# Altium footprint library EISI.PcbLib: 695 footprints (part 24 of 44)
Each footprint in its own frame and in the unit in brackets; x right, y up, seen from the top. Pads: shape width x height; smd on the part's side, far side on the other; paste and mask are expansions set on the pad; w line width, h text height; cw(c..) or ccw(c..) is an arc to the next point about the centre after c.
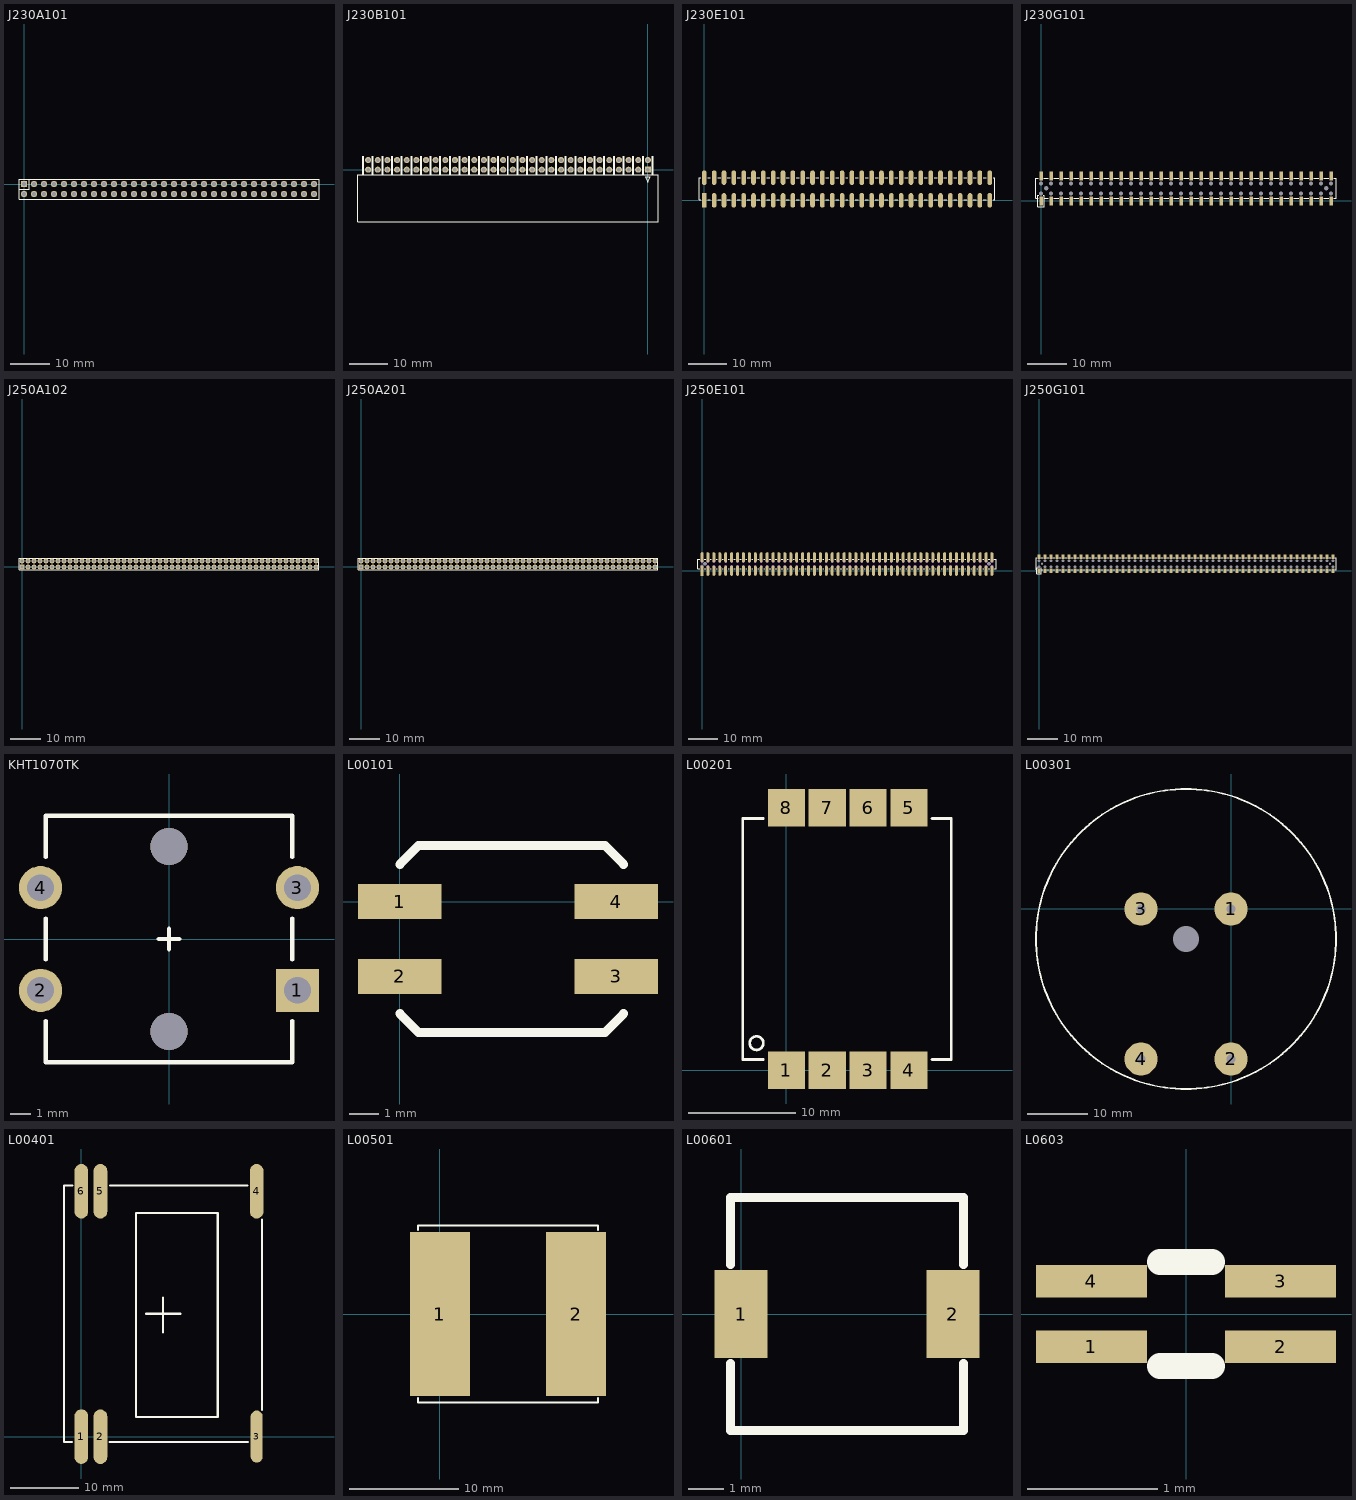
[diagram p23: the footprints below, top view; thin cyan lines are the x and y axes]

## J230A101 [mm]
height 4.6
pads (60):
  rect 1.6x1.6 hole 0.9: 1(0,0)
  round 1.6 hole 0.9: 2(0,-2.54) 3(2.54,0) 4(2.54,-2.54) 5(5.08,0) 6(5.08,-2.54) 7(7.62,0) 8(7.62,-2.54) 9(10.16,0) 10(10.16,-2.54) 11(12.7,0) 12(12.7,-2.54) 13(15.24,0) 14(15.24,-2.54) 15(17.78,0) 16(17.78,-2.54) 17(20.32,0) 18(20.32,-2.54) 19(22.86,0) 20(22.86,-2.54) 21(25.4,0) 22(25.4,-2.54) 23(27.94,0) 24(27.94,-2.54) 25(30.48,0) 26(30.48,-2.54) 27(33.02,0) 28(33.02,-2.54) 29(35.56,0) 30(35.56,-2.54) 31(38.1,0) 32(38.1,-2.54) 33(40.64,0) 34(40.64,-2.54) 35(43.18,0) 36(43.18,-2.54) 37(45.72,0) 38(45.72,-2.54) 39(48.26,0) 40(48.26,-2.54) 41(50.8,0) 42(50.8,-2.54) 43(53.34,0) 44(53.34,-2.54) 45(55.88,0) 46(55.88,-2.54) 47(58.42,0) 48(58.42,-2.54) 49(60.96,0) 50(60.96,-2.54) 51(63.5,0) 52(63.5,-2.54) 53(66.04,0) 54(66.04,-2.54) 55(68.58,0) 56(68.58,-2.54) 57(71.12,0) 58(71.12,-2.54) 59(73.66,0) 60(73.66,-2.54)
TopOverlay:
  lines w0.254: -1.27,-1.27 1.27,-1.27 1.27,1.27 ; -1.27,-3.81 74.93,-3.81 74.93,1.27 -1.27,1.27 -1.27,-3.81

## J230B101 [mm]
pads (60):
  rect 1.6x1.6 hole 0.9: 1(0,0)
  round 1.6 hole 0.9: 2(-2.54,0) 3(-5.08,0) 4(-7.62,0) 5(-10.16,0) 6(-12.7,0) 7(-15.24,0) 8(-17.78,0) 9(-20.32,0) 10(-22.86,0) 11(-25.4,0) 12(-27.94,0) 13(-30.48,0) 14(-33.02,0) 15(-35.56,0) 16(-38.1,0) 17(-40.64,0) 18(-43.18,0) 19(-45.72,0) 20(-48.26,0) 21(-50.8,0) 22(-53.34,0) 23(-55.88,0) 24(-58.42,0) 25(-60.96,0) 26(-63.5,0) 27(-66.04,0) 28(-68.58,0) 29(-71.12,0) 30(-73.66,0) 31(0,2.54) 32(-2.54,2.54) 33(-5.08,2.54) 34(-7.62,2.54) 35(-10.16,2.54) 36(-12.7,2.54) 37(-15.24,2.54) 38(-17.78,2.54) 39(-20.32,2.54) 40(-22.86,2.54) 41(-25.4,2.54) 42(-27.94,2.54) 43(-30.48,2.54) 44(-33.02,2.54) 45(-35.56,2.54) 46(-38.1,2.54) 47(-40.64,2.54) 48(-43.18,2.54) 49(-45.72,2.54) 50(-48.26,2.54) 51(-50.8,2.54) 52(-53.34,2.54) 53(-55.88,2.54) 54(-58.42,2.54) 55(-60.96,2.54) 56(-63.5,2.54) 57(-66.04,2.54) 58(-68.58,2.54) 59(-71.12,2.54) 60(-73.66,2.54)
TopOverlay:
  lines w0.305: -75.057,-1.27 -75.057,3.556 -74.803,3.556 -74.803,-1.27 ; -72.517,-1.27 -72.517,3.556 -72.263,3.556 -72.263,-1.27 ; -69.977,-1.27 -69.977,3.556 -69.723,3.556 -69.723,-1.27 ; -67.437,-1.27 -67.437,3.556 -67.183,3.556 -67.183,-1.27 ; -64.897,-1.27 -64.897,3.556 -64.643,3.556 -64.643,-1.27 ; -62.357,-1.27 -62.357,3.556 -62.103,3.556 -62.103,-1.27 ; -59.817,-1.27 -59.817,3.556 -59.563,3.556 -59.563,-1.27 ; -57.277,-1.27 -57.277,3.556 -57.023,3.556 -57.023,-1.27 ; -54.737,-1.27 -54.737,3.556 -54.483,3.556 -54.483,-1.27 ; -52.197,-1.27 -52.197,3.556 -51.943,3.556 -51.943,-1.27 ; -49.657,-1.27 -49.657,3.556 -49.403,3.556 -49.403,-1.27 ; -47.117,-1.27 -47.117,3.556 -46.863,3.556 -46.863,-1.27 ; -44.577,-1.27 -44.577,3.556 -44.323,3.556 -44.323,-1.27 ; -42.037,-1.27 -42.037,3.556 -41.783,3.556 -41.783,-1.27 ; -39.497,-1.27 -39.497,3.556 -39.243,3.556 -39.243,-1.27 ; -36.957,-1.27 -36.957,3.556 -36.703,3.556 -36.703,-1.27 ; -34.417,-1.27 -34.417,3.556 -34.163,3.556 -34.163,-1.27 ; -31.877,-1.27 -31.877,3.556 -31.623,3.556 -31.623,-1.27 ; -29.337,-1.27 -29.337,3.556 -29.083,3.556 -29.083,-1.27 ; -26.797,-1.27 -26.797,3.556 -26.543,3.556 -26.543,-1.27 ; -24.257,-1.27 -24.257,3.556 -24.003,3.556 -24.003,-1.27 ; -21.717,-1.27 -21.717,3.556 -21.463,3.556 -21.463,-1.27 ; -19.177,-1.27 -19.177,3.556 -18.923,3.556 -18.923,-1.27 ; -16.637,-1.27 -16.637,3.556 -16.383,3.556 -16.383,-1.27 ; -14.097,-1.27 -14.097,3.556 -13.843,3.556 -13.843,-1.27 ; -11.557,-1.27 -11.557,3.556 -11.303,3.556 -11.303,-1.27 ; -9.017,-1.27 -9.017,3.556 -8.763,3.556 -8.763,-1.27 ; -6.477,-1.27 -6.477,3.556 -6.223,3.556 -6.223,-1.27 ; -3.937,-1.27 -3.937,3.556 -3.683,3.556 -3.683,-1.27 ; -1.397,-1.27 -1.397,3.556 -1.143,3.556 -1.143,-1.27 ; 1.143,-1.27 1.143,3.556 1.397,3.556 1.397,-1.27 ; -76.327,-13.716 2.667,-13.716 2.667,-1.27 -76.327,-1.27 -76.327,-13.716 ; -0.635,-1.905 0,-3.302 0.635,-1.905 -0.635,-1.905

## J230E101 [mil]
pads (60):
  rect 47x148 smd: 1(0,0)
  oval 47x148 smd: 2(0,230) 3(100,0) 4(100,230) 5(200,0) 6(200,230) 7(300,0) 8(300,230) 9(400,0) 10(400,230) 11(500,0) 12(500,230) 13(600,0) 14(600,230) 15(700,0) 16(700,230) 17(800,0) 18(800,230) 19(900,0) 20(900,230) 21(1000,0) 22(1000,230) 23(1100,0) 24(1100,230) 25(1200,0) 26(1200,230) 27(1300,0) 28(1300,230) 29(1400,0) 30(1400,230) 31(1500,0) 32(1500,230) 33(1600,0) 34(1600,230) 35(1700,0) 36(1700,230) 37(1800,0) 38(1800,230) 39(1900,0) 40(1900,230) 41(2000,0) 42(2000,230) 43(2100,0) 44(2100,230) 45(2200,0) 46(2200,230) 47(2300,0) 48(2300,230) 49(2400,0) 50(2400,230) 51(2500,0) 52(2500,230) 53(2600,0) 54(2600,230) 55(2700,0) 56(2700,230) 57(2800,0) 58(2800,230) 59(2900,0) 60(2900,230)
TopOverlay:
  lines w7.87: -35,5 -50,5 -50,230 -35,230 ; 35,5 60,5 ; 35,230 60,230 ; 135,5 165,5 ; 135,230 165,230 ; 235,5 265,5 ; 235,230 265,230 ; 335,5 365,5 ; 335,230 365,230 ; 435,5 465,5 ; 435,230 465,230 ; 535,5 565,5 ; 535,230 565,230 ; 635,5 665,5 ; 635,230 665,230 ; 735,5 760,5 ; 735,230 760,230 ; 835,5 865,5 ; 835,230 865,230 ; 935,5 965,5 ; 935,230 965,230 ; 1035,5 1065,5 ; 1035,230 1065,230 ; 1135,5 1165,5 ; 1135,230 1165,230 ; 1235,5 1265,5 ; 1235,230 1265,230 ; 1335,5 1365,5 ; 1335,230 1365,230 ; 1435,5 1460,5 ; 1435,230 1460,230 ; 1535,5 1565,5 ; 1535,230 1565,230 ; 1635,5 1665,5 ; 1635,230 1665,230 ; 1735,5 1765,5 ; 1735,230 1765,230 ; 1835,5 1865,5 ; 1835,230 1865,230 ; 1935,5 1965,5 ; 1935,230 1965,230 ; 2035,5 2065,5 ; 2035,230 2065,230 ; 2135,5 2160,5 ; 2135,230 2160,230 ; 2235,5 2265,5 ; 2235,230 2265,230 ; 2335,5 2365,5 ; 2335,230 2365,230 ; 2435,5 2465,5 ; 2435,230 2465,230 ; 2535,5 2565,5 ; 2535,230 2565,230 ; 2635,5 2665,5 ; 2635,230 2665,230 ; 2735,5 2765,5 ; 2735,230 2765,230 ; 2835,5 2865,5 ; 2835,230 2865,230 ; 2935,5 2950,5 2950,230 2935,230

## J230G101 [mil]
pads (122):
  rect 35x91 smd: 1(0,0) 2(0,250) 3(100,0) 4(100,250) 5(200,0) 6(200,250) 7(300,0) 8(300,250) 9(400,0) 10(400,250) 11(500,0) 12(500,250) 13(600,0) 14(600,250) 15(700,0) 16(700,250) 17(800,0) 18(800,250) 19(900,0) 20(900,250) 21(1000,0) 22(1000,250) 23(1100,0) 24(1100,250) 25(1200,0) 26(1200,250) 27(1300,0) 28(1300,250) 29(1400,0) 30(1400,250) 31(1500,0) 32(1500,250) 33(1600,0) 34(1600,250) 35(1700,0) 36(1700,250) 37(1800,0) 38(1800,250) 39(1900,0) 40(1900,250) 41(2000,0) 42(2000,250) 43(2100,0) 44(2100,250) 45(2200,0) 46(2200,250) 47(2300,0) 48(2300,250) 49(2400,0) 50(2400,250) 51(2500,0) 52(2500,250) 53(2600,0) 54(2600,250) 55(2700,0) 56(2700,250) 57(2800,0) 58(2800,250) 59(2900,0) 60(2900,250)
  round 12 hole 38: ""(0,75) ""(0,175) ""(100,75) ""(100,175) ""(200,75) ""(200,175) ""(300,75) ""(300,175) ""(400,75) ""(400,175) ""(500,75) ""(500,175) ""(600,75) ""(600,175) ""(700,75) ""(700,175) ""(800,75) ""(800,175) ""(900,75) ""(900,175) ""(1000,75) ""(1000,175) ""(1100,75) ""(1100,175) ""(1200,75) ""(1200,175) ""(1300,75) ""(1300,175) ""(1400,75) ""(1400,175) ""(1500,75) ""(1500,175) ""(1600,75) ""(1600,175) ""(1700,75) ""(1700,175) ""(1800,75) ""(1800,175) ""(1900,75) ""(1900,175) ""(2000,75) ""(2000,175) ""(2100,75) ""(2100,175) ""(2200,75) ""(2200,175) ""(2300,75) ""(2300,175) ""(2400,75) ""(2400,175) ""(2500,75) ""(2500,175) ""(2600,75) ""(2600,175) ""(2700,75) ""(2700,175) ""(2800,75) ""(2800,175) ""(2900,75) ""(2900,175)
  round 12 hole 47: ""(50,125) ""(2850,125)
TopOverlay:
  lines w7.87: -27.56,25 -51.18,25 -51.18,225.79 -27.56,225.79 ; -23.62,56.5 -31.5,56.5 -31.5,25 -31.5,-57.68 27.56,-57.68 31.5,-57.68 31.5,52.56 31.5,56.5 23.62,56.5 ; 27.56,25 70.87,25 ; 27.56,225.79 70.87,225.79 ; 126.77,25 174.01,25 ; 126.77,225.79 174.01,225.79 ; 226.77,25 274.01,25 ; 226.77,225.79 274.01,225.79 ; 326.77,25 374.01,25 ; 326.77,225.79 374.01,225.79 ; 426.77,25 474.01,25 ; 426.77,225.79 474.01,225.79 ; 526.77,25 574.01,25 ; 526.77,225.79 574.01,225.79 ; 626.77,25 674.01,25 ; 626.77,225.79 674.01,225.79 ; 726.77,25 774.01,25 ; 726.77,225.79 774.01,225.79 ; 826.77,25 874.01,25 ; 826.77,225.79 874.01,225.79 ; 926.77,25 974.01,25 ; 926.77,225.79 974.01,225.79 ; 1026.77,25 1074.02,25 ; 1026.77,225.79 1074.02,225.79 ; 1126.77,25 1174.02,25 ; 1126.77,225.79 1174.02,225.79 ; 1226.77,25 1274.02,25 ; 1226.77,225.79 1274.02,225.79 ; 1326.77,25 1374.02,25 ; 1326.77,225.79 1374.02,225.79 ; 1426.77,25 1474.02,25 ; 1426.77,225.79 1474.02,225.79 ; 1526.77,25 1574.02,25 ; 1526.77,225.79 1574.02,225.79 ; 1626.77,25 1674.02,25 ; 1626.77,225.79 1674.02,225.79 ; 1726.77,25 1774.02,25 ; 1726.77,225.79 1774.02,225.79 ; 1826.77,25 1874.02,25 ; 1826.77,225.79 1874.02,225.79 ; 1926.77,25 1974.02,25 ; 1926.77,225.79 1974.02,225.79 ; 2026.77,25 2074.01,25 ; 2026.77,225.79 2074.01,225.79 ; 2126.77,25 2174.01,25 ; 2126.77,225.79 2174.01,225.79 ; 2226.77,25 2274.01,25 ; 2226.77,225.79 2274.01,225.79 ; 2326.77,25 2374.01,25 ; 2326.77,225.79 2374.01,225.79 ; 2426.77,25 2474.01,25 ; 2426.77,225.79 2474.01,225.79 ; 2526.77,25 2574.01,25 ; 2526.77,225.79 2574.01,225.79 ; 2626.77,25 2674.01,25 ; 2626.77,225.79 2674.01,225.79 ; 2726.77,25 2774.01,25 ; 2726.77,225.79 2774.01,225.79 ; 2826.77,25 2874.01,25 ; 2826.77,225.79 2874.01,225.79 ; 2925.2,25 2948.82,25 2948.82,225.79 2925.2,225.79

## J250A102 [mm]
pads (100):
  rect 1.6x1.6 hole 0.9: 1(0,0)
  round 1.6 hole 0.9: 2(0,2) 3(2,0) 4(2,2) 5(4,0) 6(4,2) 7(6,0) 8(6,2) 9(8,0) 10(8,2) 11(10,0) 12(10,2) 13(12,0) 14(12,2) 15(14,0) 16(14,2) 17(16,0) 18(16,2) 19(18,0) 20(18,2) 21(20,0) 22(20,2) 23(22,0) 24(22,2) 25(24,0) 26(24,2) 27(26,0) 28(26,2) 29(28,0) 30(28,2) 31(30,0) 32(30,2) 33(32,0) 34(32,2) 35(34,0) 36(34,2) 37(36,0) 38(36,2) 39(38,0) 40(38,2) 41(40,0) 42(40,2) 43(42,0) 44(42,2) 45(44,0) 46(44,2) 47(46,0) 48(46,2) 49(48,0) 50(48,2) 51(50,0) 52(50,2) 53(52,0) 54(52,2) 55(54,0) 56(54,2) 57(56,0) 58(56,2) 59(58,0) 60(58,2) 61(60,0) 62(60,2) 63(62,0) 64(62,2) 65(64,0) 66(64,2) 67(66,0) 68(66,2) 69(68,0) 70(68,2) 71(70,0) 72(70,2) 73(72,0) 74(72,2) 75(74,0) 76(74,2) 77(76,0) 78(76,2) 79(78,0) 80(78,2) 81(80,0) 82(80,2) 83(82,0) 84(82,2) 85(84,0) 86(84,2) 87(86,0) 88(86,2) 89(88,0) 90(88,2) 91(90,0) 92(90,2) 93(92,0) 94(92,2) 95(94,0) 96(94,2) 97(96,0) 98(96,2) 99(98,0) 100(98,2)
TopOverlay:
  lines w0.2: -1,-1 99,-1 99,3 -1,3 -1,-1

## J250A201 [mm]
pads (100):
  rect 1.6x1.6 hole 0.9: 1(0,0)
  round 1.6 hole 0.9: 2(0,2) 3(2,0) 4(2,2) 5(4,0) 6(4,2) 7(6,0) 8(6,2) 9(8,0) 10(8,2) 11(10,0) 12(10,2) 13(12,0) 14(12,2) 15(14,0) 16(14,2) 17(16,0) 18(16,2) 19(18,0) 20(18,2) 21(20,0) 22(20,2) 23(22,0) 24(22,2) 25(24,0) 26(24,2) 27(26,0) 28(26,2) 29(28,0) 30(28,2) 31(30,0) 32(30,2) 33(32,0) 34(32,2) 35(34,0) 36(34,2) 37(36,0) 38(36,2) 39(38,0) 40(38,2) 41(40,0) 42(40,2) 43(42,0) 44(42,2) 45(44,0) 46(44,2) 47(46,0) 48(46,2) 49(48,0) 50(48,2) 51(50,0) 52(50,2) 53(52,0) 54(52,2) 55(54,0) 56(54,2) 57(56,0) 58(56,2) 59(58,0) 60(58,2) 61(60,0) 62(60,2) 63(62,0) 64(62,2) 65(64,0) 66(64,2) 67(66,0) 68(66,2) 69(68,0) 70(68,2) 71(70,0) 72(70,2) 73(72,0) 74(72,2) 75(74,0) 76(74,2) 77(76,0) 78(76,2) 79(78,0) 80(78,2) 81(80,0) 82(80,2) 83(82,0) 84(82,2) 85(84,0) 86(84,2) 87(86,0) 88(86,2) 89(88,0) 90(88,2) 91(90,0) 92(90,2) 93(92,0) 94(92,2) 95(94,0) 96(94,2) 97(96,0) 98(96,2) 99(98,0) 100(98,2)
TopOverlay:
  lines w0.2: -1,-1 -1,3 99,3 99,-1 -1,-1

## J250E101 [mm]
pads (102):
  rect 1x3.4 smd: 1(0,0)
  oval 1x3.4 smd: 2(0,4.557) 3(2,0) 4(2,4.55) 5(4,0) 6(4,4.55) 7(6,0) 8(6,4.55) 9(8,0) 10(8,4.55) 11(10,0) 12(10,4.55) 13(12,0) 14(12,4.55) 15(14,0) 16(14,4.55) 17(16,0) 18(16,4.55) 19(18,0) 20(18,4.55) 21(20,0) 22(20,4.55) 23(22,0) 24(22,4.55) 25(24,0) 26(24,4.55) 27(26,0) 28(26,4.55) 29(28,0) 30(28,4.55) 31(30,0) 32(30,4.55) 33(32,0) 34(32,4.55) 35(34,0) 36(34,4.55) 37(36,0) 38(36,4.55) 39(38,0) 40(38,4.55) 41(40,0) 42(40,4.55) 43(42,0) 44(42,4.55) 45(44,0) 46(44,4.55) 47(46,0) 48(46,4.55) 49(48,0) 50(48,4.55) 51(50,0) 52(50,4.55) 53(52,0) 54(52,4.55) 55(54,0) 56(54,4.55) 57(56,0) 58(56,4.55) 59(58,0) 60(58,4.55) 61(60,0) 62(60,4.55) 63(62,0) 64(62,4.55) 65(64,0) 66(64,4.55) 67(66,0) 68(66,4.55) 69(68,0) 70(68,4.55) 71(70,0) 72(70,4.55) 73(72,0) 74(72,4.55) 75(74,0) 76(74,4.55) 77(76,0) 78(76,4.55) 79(78,0) 80(78,4.55) 81(80,0) 82(80,4.55) 83(82,0) 84(82,4.55) 85(84,0) 86(84,4.55) 87(86,0) 88(86,4.55) 89(88,0) 90(88,4.55) 91(90,0) 92(90,4.55) 93(92,0) 94(92,4.55) 95(94,0) 96(94,4.55) 97(96,0) 98(96,4.55) 99(98,0) 100(98,4.55)
  round 0.3 hole 1.2: ""(1,2.3) ""(97,2.3)
TopOverlay:
  lines w0.2: -0.8,0.6 -1.5,0.6 -1.5,3.95 -0.8,3.95 ; 0.8,0.6 1.2,0.6 ; 0.8,3.95 1.2,3.95 ; 2.8,0.6 3.2,0.6 ; 2.8,3.95 3.2,3.95 ; 4.8,0.6 5.2,0.6 ; 4.8,3.95 5.2,3.95 ; 6.8,0.6 7.2,0.6 ; 6.8,3.95 7.2,3.95 ; 8.8,0.6 9.2,0.6 ; 8.8,3.95 9.2,3.95 ; 10.8,0.6 11.201,0.61 ; 10.8,3.95 11.201,3.947 ; 12.8,0.6 13.2,0.6 ; 12.8,3.95 13.2,3.95 ; 15,0.6 14.8,0.6 15.2,0.6 ; 15,3.95 14.8,3.95 15.2,3.95 ; 16.8,0.6 17.2,0.6 ; 16.8,3.95 17.2,3.95 ; 18.8,0.6 19.2,0.6 ; 18.8,3.95 19.2,3.95 ; 20.8,0.6 21.2,0.6 ; 20.8,3.95 21.2,3.95 ; 22.8,0.6 23.2,0.6 ; 22.8,3.95 23.2,3.95 ; 24.8,0.6 25.201,0.61 ; 24.8,3.95 25.201,3.947 ; 26.8,0.6 27.2,0.6 ; 26.8,3.95 27.2,3.95 ; 28.8,0.6 29.2,0.6 ; 28.8,3.95 29.2,3.95 ; 30.8,0.6 31.2,0.6 ; 30.8,3.95 31.2,3.95 ; 32.8,0.6 33.2,0.6 ; 32.8,3.95 33.2,3.95 ; 34.8,0.6 35.2,0.6 ; 34.8,3.95 35.2,3.95 ; 36.8,0.6 37.2,0.6 ; 36.8,3.95 37.2,3.95 ; 38.8,0.6 39.201,0.61 ; 38.8,3.95 39.201,3.947 ; 40.8,0.6 41.2,0.6 ; 40.8,3.95 41.2,3.95 ; 42.8,0.6 43.2,0.6 ; 42.8,3.95 43.2,3.95 ; 44.8,0.6 45.2,0.6 ; 44.8,3.95 45.2,3.95 ; 46.8,0.6 47.2,0.6 ; 46.8,3.95 47.2,3.95 ; 48.8,0.6 49.2,0.6 ; 48.8,3.95 49.2,3.95 ; 50.8,0.6 51.2,0.6 ; 50.8,3.95 51.2,3.95 ; 52.8,0.6 53.201,0.61 ; 52.8,3.95 53.201,3.947 ; 54.8,0.6 55.2,0.6 ; 54.8,3.95 55.2,3.95 ; 56.8,0.6 57.2,0.6 ; 56.8,3.95 57.2,3.95 ; 58.8,0.6 59.2,0.6 ; 58.8,3.95 59.2,3.95 ; 60.8,0.6 61.2,0.6 ; 60.8,3.95 61.2,3.95 ; 62.8,0.6 63.2,0.6 ; 62.8,3.95 63.2,3.95 ; 64.8,0.6 65.2,0.6 ; 64.8,3.95 65.2,3.95 ; 66.8,0.6 67.201,0.61 ; 66.8,3.95 67.201,3.947 ; 68.8,0.6 69.2,0.6 ; 68.8,3.95 69.2,3.95 ; 70.8,0.6 71.2,0.6 ; 70.8,3.95 71.2,3.95 ; 72.8,0.6 73.2,0.6 ; 72.8,3.95 73.2,3.95 ; 74.8,0.6 75.2,0.6 ; 74.8,3.95 75.2,3.95 ; 76.8,0.6 77.2,0.6 ; 76.8,3.95 77.2,3.95 ; 78.8,0.6 79.2,0.6 ; 78.8,3.95 79.2,3.95 ; 80.8,0.6 81.201,0.61 ; 80.8,3.95 81.201,3.947 ; 82.8,0.6 83.2,0.6 ; 82.8,3.95 83.2,3.95 ; 84.8,0.6 85.2,0.6 ; 84.8,3.95 85.2,3.95 ; 86.8,0.6 87.2,0.6 ; 86.8,3.95 87.2,3.95 ; 88.8,0.6 89.2,0.6 ; 88.8,3.95 89.2,3.95 ; 90.8,0.6 91.2,0.6 ; 90.8,3.95 91.2,3.95 ; 92.8,0.6 93.2,0.6 ; 92.8,3.95 93.2,3.95 ; 94.8,0.6 95.201,0.61 ; 94.8,3.95 95.201,3.947 ; 96.8,0.6 97.2,0.6 ; 96.8,3.95 97.2,3.95 ; 98.675,0.6 99.5,0.6 99.5,3.95 98.675,3.95
Mechanical4:
  circle w0.2: c0,1.3 r0.4
  circle w0.2: c2,1.3 r0.4
  circle w0.2: c0,3.3 r0.4
  circle w0.2: c14,1.3 r0.4
  circle w0.2: c14,3.3 r0.4
  circle w0.2: c12,3.3 r0.4
  circle w0.2: c12,1.3 r0.4
  circle w0.2: c10,1.3 r0.4
  circle w0.2: c10,3.3 r0.4
  circle w0.2: c8,3.3 r0.4
  circle w0.2: c8,1.3 r0.4
  circle w0.2: c6,1.3 r0.4
  circle w0.2: c6,3.3 r0.4
  circle w0.2: c4,3.3 r0.4
  circle w0.2: c4,1.3 r0.4
  circle w0.2: c2,3.3 r0.4
  circle w0.2: c16,1.3 r0.4
  circle w0.2: c28,1.3 r0.4
  circle w0.2: c28,3.3 r0.4
  circle w0.2: c26,3.3 r0.4
  circle w0.2: c26,1.3 r0.4
  circle w0.2: c24,1.3 r0.4
  circle w0.2: c24,3.3 r0.4
  circle w0.2: c22,3.3 r0.4
  circle w0.2: c22,1.3 r0.4
  circle w0.2: c20,1.3 r0.4
  circle w0.2: c20,3.3 r0.4
  circle w0.2: c18,3.3 r0.4
  circle w0.2: c18,1.3 r0.4
  circle w0.2: c16,3.3 r0.4
  circle w0.2: c30,3.3 r0.4
  circle w0.2: c32,1.3 r0.4
  circle w0.2: c32,3.3 r0.4
  circle w0.2: c34,3.3 r0.4
  circle w0.2: c34,1.3 r0.4
  circle w0.2: c36,1.3 r0.4
  circle w0.2: c36,3.3 r0.4
  circle w0.2: c38,3.3 r0.4
  circle w0.2: c38,1.3 r0.4
  circle w0.2: c40,1.3 r0.4
  circle w0.2: c40,3.3 r0.4
  circle w0.2: c42,3.3 r0.4
  circle w0.2: c42,1.3 r0.4
  circle w0.2: c30,1.3 r0.4
  circle w0.2: c44,1.3 r0.4
  circle w0.2: c56,1.3 r0.4
  circle w0.2: c56,3.3 r0.4
  circle w0.2: c54,3.3 r0.4
  circle w0.2: c54,1.3 r0.4
  circle w0.2: c52,1.3 r0.4
  circle w0.2: c52,3.3 r0.4
  circle w0.2: c50,3.3 r0.4
  circle w0.2: c50,1.3 r0.4
  circle w0.2: c48,1.3 r0.4
  circle w0.2: c48,3.3 r0.4
  circle w0.2: c46,3.3 r0.4
  circle w0.2: c46,1.3 r0.4
  circle w0.2: c44,3.3 r0.4
  circle w0.2: c58,3.3 r0.4
  circle w0.2: c60,1.3 r0.4
  circle w0.2: c60,3.3 r0.4
  circle w0.2: c62,3.3 r0.4
  circle w0.2: c62,1.3 r0.4
  circle w0.2: c64,1.3 r0.4
  circle w0.2: c64,3.3 r0.4
  circle w0.2: c66,3.3 r0.4
  circle w0.2: c66,1.3 r0.4
  circle w0.2: c68,1.3 r0.4
  circle w0.2: c68,3.3 r0.4
  circle w0.2: c70,3.3 r0.4
  circle w0.2: c70,1.3 r0.4
  circle w0.2: c58,1.3 r0.4
  circle w0.2: c72,1.3 r0.4
  circle w0.2: c84,1.3 r0.4
  circle w0.2: c84,3.3 r0.4
  circle w0.2: c82,3.3 r0.4
  circle w0.2: c82,1.3 r0.4
  circle w0.2: c80,1.3 r0.4
  circle w0.2: c80,3.3 r0.4
  circle w0.2: c78,3.3 r0.4
  circle w0.2: c78,1.3 r0.4
  circle w0.2: c76,1.3 r0.4
  circle w0.2: c76,3.3 r0.4
  circle w0.2: c74,3.3 r0.4
  circle w0.2: c74,1.3 r0.4
  circle w0.2: c72,3.3 r0.4
  circle w0.2: c86,3.3 r0.4
  circle w0.2: c88,1.3 r0.4
  circle w0.2: c88,3.3 r0.4
  circle w0.2: c90,3.3 r0.4
  circle w0.2: c90,1.3 r0.4
  circle w0.2: c92,1.3 r0.4
  circle w0.2: c92,3.3 r0.4
  circle w0.2: c94,3.3 r0.4
  circle w0.2: c94,1.3 r0.4
  circle w0.2: c96,1.3 r0.4
  circle w0.2: c96,3.3 r0.4
  circle w0.2: c98,3.3 r0.4
  circle w0.2: c98,1.3 r0.4
  circle w0.2: c86,1.3 r0.4

## J250G101 [mil]
pads (202):
  rect 35x59 smd: 1(0,0) 2(0,181.1) 3(78.74,0) 4(78.74,181.1) 5(157.48,0) 6(157.48,181.1) 7(236.22,0) 8(236.22,181.1) 9(314.96,0) 10(314.96,181.1) 11(393.7,0) 12(393.7,181.1) 13(472.44,0) 14(472.44,181.1) 15(551.18,0) 16(551.18,181.1) 17(629.92,0) 18(629.92,181.1) 19(708.66,0) 20(708.66,181.1) 21(787.4,0) 22(787.4,181.1) 23(866.14,0) 24(866.14,181.1) 25(944.88,0) 26(944.88,181.1) 27(1023.62,0) 28(1023.62,181.1) 29(1102.36,0) 30(1102.36,181.1) 31(1181.1,0) 32(1181.1,181.1) 33(1259.84,0) 34(1259.84,181.1) 35(1338.58,0) 36(1338.58,181.1) 37(1417.32,0) 38(1417.32,181.1) 39(1496.06,0) 40(1496.06,181.1) 41(1574.8,0) 42(1574.8,181.1) 43(1653.54,0) 44(1653.54,181.1) 45(1732.28,0) 46(1732.28,181.1) 47(1811.02,0) 48(1811.02,181.1) 49(1889.76,0) 50(1889.76,181.1) 51(1968.5,0) 52(1968.5,181.1) 53(2047.24,0) 54(2047.24,181.1) 55(2125.98,0) 56(2125.98,181.1) 57(2204.72,0) 58(2204.72,181.1) 59(2283.46,0) 60(2283.46,181.1) 61(2362.2,0) 62(2362.2,181.1) 63(2440.94,0) 64(2440.94,181.1) 65(2519.68,0) 66(2519.68,181.1) 67(2598.43,0) 68(2598.43,181.1) 69(2677.16,0) 70(2677.16,181.1) 71(2755.91,0) 72(2755.91,181.1) 73(2834.64,0) 74(2834.64,181.1) 75(2913.39,0) 76(2913.39,181.1) 77(2992.13,0) 78(2992.13,181.1) 79(3070.87,0) 80(3070.87,181.1) 81(3149.61,0) 82(3149.61,181.1) 83(3228.35,0) 84(3228.35,181.1) 85(3307.09,0) 86(3307.09,181.1) 87(3385.83,0) 88(3385.83,181.1) 89(3464.57,0) 90(3464.57,181.1) 91(3543.31,0) 92(3543.31,181.1) 93(3622.05,0) 94(3622.05,181.1) 95(3700.79,0) 96(3700.79,181.1) 97(3779.53,0) 98(3779.53,181.1) 99(3858.27,0) 100(3858.27,181.1)
  round 12 hole 34: ""(0,51.18) ""(0,129.92) ""(78.74,51.18) ""(78.74,129.92) ""(157.48,51.18) ""(157.48,129.92) ""(236.22,51.18) ""(236.22,129.92) ""(314.96,51.18) ""(314.96,129.92) ""(393.7,51.18) ""(393.7,129.92) ""(472.44,51.18) ""(472.44,129.92) ""(551.18,51.18) ""(551.18,129.92) ""(629.92,51.18) ""(629.92,129.92) ""(708.66,51.18) ""(708.66,129.92) ""(787.4,51.18) ""(787.4,129.92) ""(866.14,51.18) ""(866.14,129.92) ""(944.88,51.18) ""(944.88,129.92) ""(1023.62,51.18) ""(1023.62,129.92) ""(1102.36,51.18) ""(1102.36,129.92) ""(1181.1,51.18) ""(1181.1,129.92) ""(1259.84,51.18) ""(1259.84,129.92) ""(1338.58,51.18) ""(1338.58,129.92) ""(1417.32,51.18) ""(1417.32,129.92) ""(1496.06,51.18) ""(1496.06,129.92) ""(1574.8,51.18) ""(1574.8,129.92) ""(1653.54,51.18) ""(1653.54,129.92) ""(1732.28,51.18) ""(1732.28,129.92) ""(1811.02,51.18) ""(1811.02,129.92) ""(1889.76,51.18) ""(1889.76,129.92) ""(1968.5,51.18) ""(1968.5,129.92) ""(2047.24,51.18) ""(2047.24,129.92) ""(2125.98,51.18) ""(2125.98,129.92) ""(2204.72,51.18) ""(2204.72,129.92) ""(2283.46,51.18) ""(2283.46,129.92) ""(2362.2,51.18) ""(2362.2,129.92) ""(2440.95,51.18) ""(2440.95,129.92) ""(2519.68,51.18) ""(2519.68,129.92) ""(2598.43,51.18) ""(2598.43,129.92) ""(2677.16,51.18) ""(2677.16,129.92) ""(2755.91,51.18) ""(2755.91,129.92) ""(2834.64,51.18) ""(2834.64,129.92) ""(2913.39,51.18) ""(2913.39,129.92) ""(2992.13,51.18) ""(2992.13,129.92) ""(3070.87,51.18) ""(3070.87,129.92) ""(3149.61,51.18) ""(3149.61,129.92) ""(3228.35,51.18) ""(3228.35,129.92) ""(3307.09,51.18) ""(3307.09,129.92) ""(3385.83,51.18) ""(3385.83,129.92) ""(3464.57,51.18) ""(3464.57,129.92) ""(3543.31,51.18) ""(3543.31,129.92) ""(3622.05,51.18) ""(3622.05,129.92) ""(3700.79,51.18) ""(3700.79,129.92) ""(3779.53,51.18) ""(3779.53,129.92) ""(3858.27,51.18) ""(3858.27,129.92)
  round 12 hole 30: ""(39.37,90.55) ""(3818.9,90.55)
TopOverlay:
  lines w7.87: -27.56,11.81 -39.37,11.81 -39.37,169.29 -27.56,169.29 ; -19.68,39.37 -31.5,39.37 -31.5,11.81 -31.5,-39.37 31.5,-39.37 31.5,11.81 31.5,39.37 23.62,39.37 ; 23.62,11.81 51.18,11.81 ; 23.62,169.29 51.18,169.29 ; 102.36,11.81 129.92,11.81 ; 102.36,169.29 129.92,169.29 ; 181.1,11.81 208.66,11.81 ; 181.1,169.29 208.66,169.29 ; 259.84,11.81 287.4,11.81 ; 259.84,169.29 287.4,169.29 ; 338.58,11.81 366.14,11.81 ; 338.58,169.29 366.14,169.29 ; 417.32,11.81 444.88,11.81 ; 417.32,169.29 444.88,169.29 ; 496.06,11.81 523.62,11.81 ; 496.06,169.29 523.62,169.29 ; 574.8,11.81 602.36,11.81 ; 574.8,169.29 602.36,169.29 ; 653.54,11.81 681.1,11.81 ; 653.54,169.29 681.1,169.29 ; 732.28,11.81 759.84,11.81 ; 732.28,169.29 759.84,169.29 ; 811.02,11.81 838.58,11.81 ; 811.02,169.29 838.58,169.29 ; 889.76,11.81 917.32,11.81 ; 889.76,169.29 917.32,169.29 ; 968.5,11.81 996.06,11.81 ; 968.5,169.29 996.06,169.29 ; 1047.24,11.81 1074.8,11.81 ; 1047.24,169.29 1074.8,169.29 ; 1125.98,11.81 1153.54,11.81 ; 1125.98,169.29 1153.54,169.29 ; 1204.72,11.81 1232.28,11.81 ; 1204.72,169.29 1232.28,169.29 ; 1283.46,11.81 1311.02,11.81 ; 1283.46,169.29 1311.02,169.29 ; 1362.2,11.81 1389.76,11.81 ; 1362.2,169.29 1389.76,169.29 ; 1440.94,11.81 1468.5,11.81 ; 1440.94,169.29 1468.5,169.29 ; 1519.68,11.81 1547.24,11.81 ; 1519.68,169.29 1547.24,169.29 ; 1598.42,11.81 1625.98,11.81 ; 1598.42,169.29 1625.98,169.29 ; 1677.16,11.81 1704.72,11.81 ; 1677.16,169.29 1704.72,169.29 ; 1755.9,11.81 1783.46,11.81 ; 1755.9,169.29 1783.46,169.29 ; 1834.64,11.81 1862.2,11.81 ; 1834.64,169.29 1862.2,169.29 ; 1913.38,11.81 1940.94,11.81 ; 1913.38,169.29 1940.94,169.29 ; 1992.13,11.81 2019.68,11.81 ; 1992.13,169.29 2019.68,169.29 ; 2070.87,11.81 2098.43,11.81 ; 2070.87,169.29 2098.43,169.29 ; 2149.61,11.81 2177.16,11.81 ; 2149.61,169.29 2177.16,169.29 ; 2228.35,11.81 2255.91,11.81 ; 2228.35,169.29 2255.91,169.29 ; 2307.09,11.81 2334.64,11.81 ; 2307.09,169.29 2334.64,169.29 ; 2385.83,11.81 2413.39,11.81 ; 2385.83,169.29 2413.39,169.29 ; 2464.57,11.81 2492.13,11.81 ; 2464.57,169.29 2492.13,169.29 ; 2543.31,11.81 2570.87,11.81 ; 2543.31,169.29 2570.87,169.29 ; 2622.05,11.81 2649.61,11.81 ; 2622.05,169.29 2649.61,169.29 ; 2700.79,11.81 2728.35,11.81 ; 2700.79,169.29 2728.35,169.29 ; 2779.53,11.81 2807.09,11.81 ; 2779.53,169.29 2807.09,169.29 ; 2858.27,11.81 2885.83,11.81 ; 2858.27,169.29 2885.83,169.29 ; 2937.01,11.81 2964.57,11.81 ; 2937.01,169.29 2964.57,169.29 ; 3015.75,11.81 3043.31,11.81 ; 3015.75,169.29 3043.31,169.29 ; 3094.49,11.81 3122.05,11.81 ; 3094.49,169.29 3122.05,169.29 ; 3173.23,11.81 3200.79,11.81 ; 3173.23,169.29 3200.79,169.29 ; 3251.97,11.81 3279.53,11.81 ; 3251.97,169.29 3279.53,169.29 ; 3330.71,11.81 3358.27,11.81 ; 3330.71,169.29 3358.27,169.29 ; 3409.45,11.81 3437.01,11.81 ; 3409.45,169.29 3437.01,169.29 ; 3488.19,11.81 3515.75,11.81 ; 3488.19,169.29 3515.75,169.29 ; 3566.93,11.81 3594.49,11.81 ; 3566.93,169.29 3594.49,169.29 ; 3645.67,11.81 3673.23,11.81 ; 3645.67,169.29 3673.23,169.29 ; 3724.41,11.81 3751.97,11.81 ; 3724.41,169.29 3751.97,169.29 ; 3803.15,11.81 3830.71,11.81 ; 3803.15,169.29 3830.71,169.29 ; 3881.89,11.81 3897.64,11.81 3897.64,169.29 3881.89,169.29

## KHT1070TK [mm] "Bouton poissoir faible course avec touche"
height 9
pads (6):
  rect 2.1x2.1 hole 1.3: 1(6.25,-2.5)
  round 2.1 hole 1.3: 2(-6.25,-2.5) 3(6.25,2.5) 4(-6.25,2.5)
  round 1.8 hole 1.8 unplated: ""(0,-4.5) ""(0,4.5)
TopOverlay:
  lines w0.2: -6,-4 -6,-6 6,-6 6,-4 ; -6,-1 -6,1 ; -6,4 -6,6 6,6 6,4 ; -0.5,0 0.5,0 ; 0,-0.5 0,0.5 ; 6,-1 6,1

## L00101 [mil]
pads (4):
  rect 112x47 smd: 1(0,0) 2(0,-100) 3(290,-100) 4(290,0)
TopOverlay:
  lines w12: 0,-150 25,-175 275,-175 300,-150 ; 0,50 25,75 275,75 300,50

## L00201 [mil]
pads (16):
  rect 137x137 smd: 1(0,0) 2(150,0) 3(300,0) 4(450,0) 5(450,965) 6(300,965) 7(150,965) 8(0,965)
  rect 90x137 on Top Solder: ""(0,0) ""(0,965) ""(150,0) ""(150,965) ""(300,0) ""(300,965) ""(450,0) ""(450,965)
TopOverlay:
  circle w10: c-110,100 r25
  lines w10: -85,40 -160,40 -160,925 -85,925 ; 535,40 605,40 605,925 535,925

## L00301 [mm]
pads (5):
  round 5.5 hole 1.5: 1(0,0) 2(0,-25) 3(-15,0) 4(-15,-25)
  round 0.3 hole 4.3: ""(-7.5,-5)
TopOverlay:
  circle w0.3: c-7.5,-5 r25

## L00401 [mm]
pads (6):
  oval 2x8 smd: 1(0,0) 2(2.8,-0.025) 4(25.7,35.95) 5(2.8,35.95) 6(0,35.95)
  oval 1.778x7.62 smd: 3(25.7,0)
TopOverlay:
  lines w0.305: -1.4,-0.8 -2.525,-0.805 -2.525,36.78 -1.275,36.8 ; 4.1,-0.8 24.45,-0.825 ; 4.2,36.775 24.325,36.775 ; 9.454,18 14.534,18 ; 12,15.26 12,20.34 ; 26.5,3.9 26.5,31.775 ; 8,2.86 8,32.74 20,32.74 20,2.86 8,2.86

## L00501 [mm]
pads (2):
  rect 5.5x15 smd: 1(0,0) 2(12.5,0)
TopOverlay:
  lines w0.2: -2,-7.7 -2,-8.1 14.5,-8.1 14.5,-7.7 ; -2,7.7 -2,8.1 14.5,8.1 14.5,7.7

## L00601 [mm] "SRR0604"
height 4.8
pads (2):
  rect 1.5x2.5 smd: 1(0,0) 2(6,0)
TopOverlay:
  lines w0.254: -0.3,-1.4 -0.3,-3.3 6.3,-3.3 6.3,-1.4 ; -0.3,1.4 -0.3,3.3 6.3,3.3 6.3,1.4

## L0603 [mm] "Wurth common mode line filter  1.6 x 0.85mm"
height 1.1
pads (4):
  rect 0.85x0.25 smd: 1(-0.725,-0.25) 2(0.725,-0.25) 3(0.725,0.25) 4(-0.725,0.25)
TopOverlay:
  lines w0.2: -0.2,-0.4 0.2,-0.4 ; -0.2,0.4 0.2,0.4